# EAGLE library part MAX3421 (library Mine)
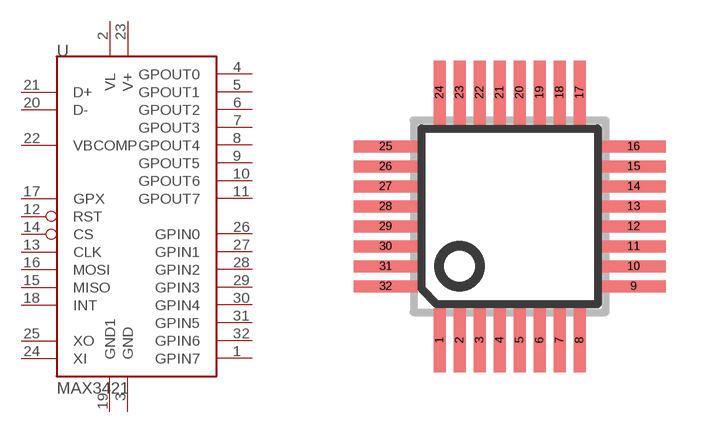
[diagram p8: symbol with the pads of LQFP-32; footprint LQFP-32]

Designator prefix -

## MAX3421  [LQFP-32]
1  GPIN7  in
2  VL  pwr
3  GND  pwr
4  GPOUT0  out
5  GPOUT1  out
6  GPOUT2  out
7  GPOUT3  out
8  GPOUT4  out
9  GPOUT5  out
10  GPOUT6  out
11  GPOUT7  out
12  RST  in
13  CLK  in
14  CS  in
15  MISO  out
16  MOSI  in
17  GPX  out
18  INT  out
19  GND1  pwr
20  D-
21  D+
22  VBCOMP  in
23  V+  pwr
24  XI
25  XO
26  GPIN0  in
27  GPIN1  in
28  GPIN2  in
29  GPIN3  in
30  GPIN4  in
31  GPIN5  in
32  GPIN6  in

## Footprint LQFP-32 (pad centres in mm)
Quad FLat Pack RFMicro Device TQFP / LQFP-32, see IPC-SQR.LBR SQFP 5x5-32
smd 0.3 x 1.6: 1 -1.75,-3.1; 2 -1.25,-3.1; 3 -0.75,-3.1; 4 -0.25,-3.1; 5 0.25,-3.1; 6 0.75,-3.1; 7 1.25,-3.1; 8 1.75,-3.1; 17 1.75,3.1; 18 1.25,3.1; 19 0.75,3.1; 20 0.25,3.1; 21 -0.25,3.1; 22 -0.75,3.1; 23 -1.25,3.1; 24 -1.75,3.1
smd 1.6 x 0.3: 9 3.1,-1.75; 10 3.1,-1.25; 11 3.1,-0.75; 12 3.1,-0.25; 13 3.1,0.25; 14 3.1,0.75; 15 3.1,1.25; 16 3.1,1.75; 25 -3.1,1.75; 26 -3.1,1.25; 27 -3.1,0.75; 28 -3.1,0.25; 29 -3.1,-0.25; 30 -3.1,-0.75; 31 -3.1,-1.25; 32 -3.1,-1.75